# Altium integrated library HD_EMG_Circuit.IntLib: 44 symbols
Pins are listed as number, name and electrical type; pins without a type are passive.

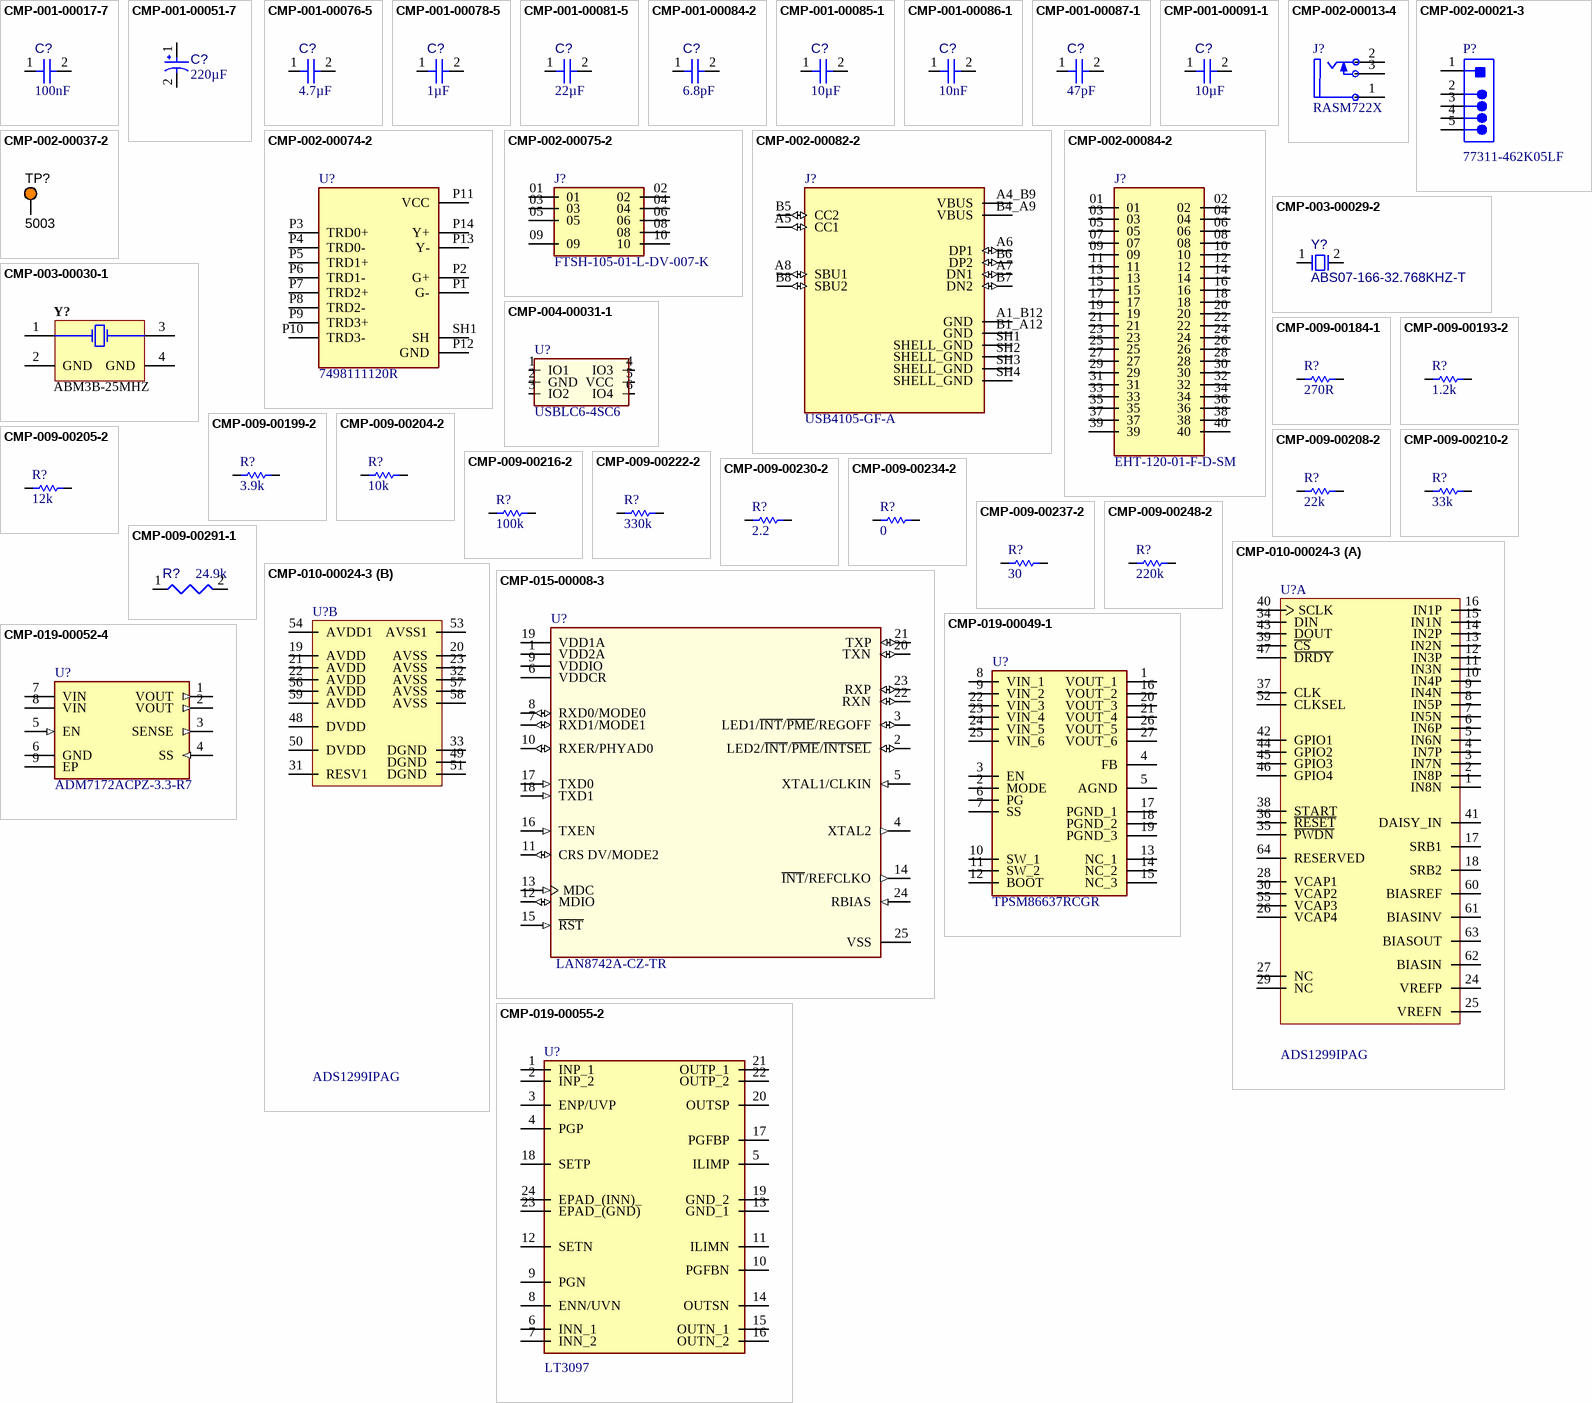
[diagram p0: symbols CMP-001-00017-7 to CMP-019-00055-2]

## CMP-001-00017-7
designator C?, comment value 100nF  (hidden comment: Capacitor 100 nF +/-10% 50 V 0603)
Chip Capacitor, 100 nF, +/- 10%, 50 V, 0603 (1608 Metric); Manufacturer: KYOCERA AVX; Manufacturer Part Number: 06035C104KAT2A; Manufacturer: Yageo Group; Manufacturer Part Number: CC0603KRX7R9BB104; Manufacturer: Murata; Manufacturer Part Number: GRM188R71H104KA93D; Voltage Rating: 50V; Capacitor Type: Ceramic; Tolerance: 10%; Mounting Technology: SM; Max Operating Temperature: 125°C; RoHS Compliant: True; Pins: 2; Case/Package: 0603; Min Operating Temperature: -55°C; Component Type: Capacitors
footprint CAPC1608X90X40NL10T20 (Chip Capacitor, 2-Leads, Body 1.70x0.90mm, IPC Medium Density)
footprint CAPC1608X90X40LL10T20 (Chip Capacitor, 2-Leads, Body 1.70x0.90mm, IPC High Density)
footprint CAPC1608X90X40ML10T20 (Chip Capacitor, 2-Leads, Body 1.70x0.90mm, IPC Low Density)
pins: 1, 2

## CMP-001-00051-7
designator C?, comment value 220µF  (hidden comment: TPSD227K010R0150)
Tantalum Capacitor, 220 uF, +/- 10%, 10 V, -55 to 125 degC, 2917 (7343 Metric), RoHS, Tape and Reel; Manufacturer: AVX Corporation; Manufacturer: KYOCERA AVX; Voltage Rating: 10V; Case/Package: 2917; Datasheet URL: https://datasheet.ciiva.com/8080/1680477-8080379.pdf; Package Description: 2-Pin Surface Mount Device, Body 7.3 x 4.35 mm; Tolerance: 10%; RoHS Compliant: True; Capacitor Type: Tantalum; Manufacturer URL: http://www.avx.com/; Pins: 2; Package Quantity: 1; Max Operating Temperature: 125°C; Mounting Technology: SM; Packaging: TapeandReel; Datasheet Version: 42736; Package Reference: 7343-31; Min Operating Temperature: -55°C; Manufacturer Part Number: TPSD227K010R0150; Component Type: Capacitors
footprint CAPMP7344X31-T_V (Molded Capacitor, 2-Leads, Body 7.50x4.5mm)
pins: 1, 2

## CMP-001-00076-5
designator C?, comment value 4.7µF  (hidden comment: Capacitor 4.7µF +/-20% 10V 0603)
Chip Capacitor, 4.7µF +/-20%, 10V, 0603, Thickness 1 mm; Manufacturer: Kyocera AVX; Manufacturer Part Number: 0603ZD475KAT2A; Manufacturer: Yageo Group; Manufacturer Part Number: CC0603KRX5R6BB475; Manufacturer: KEMET; Manufacturer Part Number: C0603C475K8PAC; Manufacturer Part Number: C0603C475K8PACTU; Manufacturer: TDK; Manufacturer Part Number: C1608X6S1A475K; Manufacturer Part Number: C1608X5R1A475K/0.80; Manufacturer Part Number: C1608X5R1A475K/0.50; Tolerance: 10%; Voltage Rating: 10V; Pins: 2; Case/Package: 0603; Max Operating Temperature: 85°C; Mounting Technology: SMT; Min Operating Temperature: -55°C; Component Type: Capacitors
footprint CAPC0603(1608)100_L (Chip Capacitor, Body 1.6x0.8mm, Height 1.0mm, IPC High Density)
pins: 1, 2

## CMP-001-00078-5
designator C?, comment value 1µF  (hidden comment: Capacitor 1µF +/-40% 50V 0603)
Chip Capacitor, 1µF +/-40%, 50V, 0603, Thickness 1 mm; Manufacturer: TDK-Lambda; Manufacturer Part Number: C1608X5R1H105M; Manufacturer: Murata; Manufacturer Part Number: GRT188R61H105ME13D; Manufacturer: TDK; Manufacturer Part Number: C1608X6S1H105M; Manufacturer: Samsung Electro-Mechanics; Manufacturer Part Number: CL10A105KB8NNNC; Manufacturer Part Number: GRT188R61H105KE13D; Tolerance: 10%; Case/Package: 0603; Min Operating Temperature: -55°C; Pins: 2; Max Operating Temperature: 85°C; Mounting Technology: SMT; Voltage Rating: 50V; Component Type: Capacitors
footprint CAPC0603(1608)100_L (Chip Capacitor, Body 1.6x0.8mm, Height 1.0mm, IPC High Density)
pins: 1, 2

## CMP-001-00081-5
designator C?, comment value 22µF  (hidden comment: Capacitor 22µF +/-40% 16V 0805)
Chip Capacitor, 22µF +/-40%, 16V, 0805, Thickness 1.45 mm; Manufacturer: Murata; Manufacturer Part Number: GRM219R61C226ME15L; Manufacturer: Samsung Electro-Mechanics; Manufacturer Part Number: CL21A226MAQNNNE; Manufacturer Part Number: CL21A226MOCLRNC; Manufacturer: TDK; Manufacturer Part Number: C2012X5R1C226M; Manufacturer Part Number: CL21A226MOQNNNE; Manufacturer Part Number: CL21A226KOQNNNE; Manufacturer Part Number: GRM21BR61C226ME44L; Tolerance: 5%; Max Operating Temperature: 85°C; Voltage Rating: 16V; Mounting Technology: SMT; Pins: 2; Case/Package: 0805; Min Operating Temperature: -55°C; Component Type: Capacitors
footprint CAPC0805(2012)145_L (Chip Capacitor, Body 2.0x1.2mm, Height 1.45mm, IPC High Density)
pins: 1, 2

## CMP-001-00084-2
designator C?, comment value 6.8pF  (hidden comment: CAP-6.8pF-0603-CL10C6R8CB8NNNC)
Ceramic Capacitor, Multilayer, Ceramic, 50V, 3.68% +Tol, 3.68% -Tol, 6.8pF-0603 C0G, -/+30ppm/Cel TC, 0.0000068uF, Surface Mount, 0603; Manufacturer: Samsung Electro-Mechanics; Max Operating Temperature: 125°C; Case/Package: 0603; Pins: 2; Min Operating Temperature: -55°C; Capacitor Type: Ceramic; RoHS Compliant: Yes; Mounting Technology: Surface Mount; Manufacturer Part Number: CL10C6R8CB8NNNC; Component Type: Capacitors
footprint FP-CL10-IPC_B
footprint FP-CL10-IPC_C
footprint FP-CL10-IPC_A
pins: 1, 2

## CMP-001-00085-1
designator C?, comment value 10µF  (hidden comment: CL31A106MBHNNNE)
Ceramic Capacitor, Multilayer, Ceramic, 50V, 20% +Tol, 20% -Tol, X5R, 15% TC, 10uF, Surface Mount, 1206; Manufacturer: Samsung Electro-Mechanics; Manufacturer Part Number: CL31B106KBHNNNE; Mounting Technology: Surface Mount; RoHS Compliant: Yes; Pins: 2; Case/Package: 1206; Min Operating Temperature: -55°C; Capacitor Type: Ceramic; Max Operating Temperature: 125°C; Manufacturer Part Number: CL31A106MBHNNNE; Component Type: Capacitors
footprint FP-CL31B106KBHNNNE-IPC_A
pins: 1, 2

## CMP-001-00086-1
designator C?, comment value 10nF  (hidden comment: MT03B103K500SD)
Ceramic Capacitor, Multilayer, Ceramic, 50V, 10% +Tol, 10% -Tol, X7R, 15% TC, 0.01uF, Surface Mount, 0603; Manufacturer: Samsung Electro-Mechanics; Manufacturer Part Number: CL10B103KB8NNNC; Case/Package: 0603; Max Operating Temperature: 125°C; RoHS Compliant: Yes; Pins: 2; Mounting Technology: Surface Mount; Capacitor Type: Ceramic; Min Operating Temperature: -55°C; Component Type: Capacitors
footprint CAPC1608X94X35ML15T15 (Chip Capacitor, 2-Leads, Body 1.75x0.96mm, IPC Low Density)
pins: 1, 2

## CMP-001-00087-1
designator C?, comment value 47pF  (hidden comment: CC0603JRNPO9BN470)
47 pF ±5% 50V Ceramic Capacitor C0G, NP0 0603 (1608 Metric); Manufacturer: KYOCERA AVX; Manufacturer Part Number: CC0603JRNPO9BN470; Component Type: Capacitors
footprint CAPC0603(1608)100_L (Chip Capacitor, Body 1.6x0.8mm, Height 1.0mm, IPC High Density)
pins: 1, 2

## CMP-001-00091-1
designator C?, comment value 10µF  (hidden comment: GRM21BR61E106KA73L)
Ceramic Capacitor, Multilayer, Ceramic, 25V, 10% +Tol, 10% -Tol, X5R, 15% TC, 10uF, Surface Mount, 0805; Manufacturer: Murata; Capacitor Type: Ceramic; Min Operating Temperature: -55°C; Mounting Technology: Surface Mount; Max Operating Temperature: 85°C; RoHS Compliant: Yes; Case/Package: 0805; Pins: 2; Manufacturer Part Number: GRM21BR61E106KA73L; Component Type: Capacitors
footprint FP-GRM21B-0_15-IPC_B
footprint FP-GRM21B-0_15-IPC_A
pins: 1, 2

## CMP-002-00013-4
designator J?, comment RASM722X
Power Jack, 5 A, 250 V, 3-Pin SMD, RoHS, Bulk; Manufacturer: Switchcraft; Connector Type: DCJack; Package Reference: RASM722X; Mounting Technology: SM; Manufacturer URL: http://www.switchcraft.com/; Datasheet URL: http://www.switchcraft.com/Drawings/rasm732x_cd.pdf; RoHS Compliant: Unknown; Datasheet Version: Rev. A, 09/2005; Package Description: 3-Pin Surface Mount Device, Body 14.5 x 9 mm; Case/Package: RASM722X; Manufacturer Part Number: RASM722X; Component Type: Connectors
footprint SWIT-RASM722X_V (SMD, 3-Leads, Body 14.5x9mm)
pins: 1 SLEEVE, 2 TIP, 3 SHUNT

## CMP-002-00021-3
designator P?, comment 77311-462K05LF
Male Header, Pitch 2.54 mm, 1 x 5 Position, Height 16.24 mm, Tail Length 3.05 mm, -65 to 125 degC, RoHS, Tape and Reel; Manufacturer: FCI Electronics; Manufacturer: Amphenol Communications Solutions; Connector Type: Header; Manufacturer URL: http://portal.fciconnect.com/; Datasheet URL: http://portal.fciconnect.com/Comergent//fci/drawing/77311.pdf; Gender: Male; Case/Package: 77311-5; Package Reference: 77311-5; Datasheet Version: Rev. CK, 07/2016; Package Description: Male Header, Pitch 2.54 mm, 1 x 5 Position, Height 16.24 mm, Tail Length 3.05 mm; RoHS Compliant: Unknown; Mounting Technology: TH; Manufacturer Part Number: 77311-462K05LF; Component Type: Connectors
footprint FCI-77311-5_V (THD, 5-Leads, Body 12.7x2.4mm, Pitch 2.54mm)
pins: 1 DTR, 2 RXI, 3 TXO, 4 VCC, 5 CTS

## CMP-002-00037-2
designator TP?, comment 5003
Test Point, Orange, Height 4.6 mm, Tail Length 3 mm, 1-Pin THD, RoHS; Manufacturer: Keystone; Colour: Orange; Packaging: Bulk; Package Description: 1-Pin Through Hole Device, Dia 2.54 mm; Pins: 1; Package Reference: 5003; Datasheet Version: Jun-15; Case/Package: 5003; Mounting Technology: TH; Connector Type: TestPoint; Diameter: 2.54mm; Contact Material: Bronze; Datasheet URL: http://keyelco.com/userAssets/file/M65p56.pdf; Manufacturer URL: http://www.keyelco.com/; Package Quantity: 10; Contact Plating: Tin; RoHS Compliant: True; Manufacturer Part Number: 5003; Component Type: Connectors
footprint KSTN-5003 (Test Point, Through Hole, Dia 2.54mm)
pins: 1

## CMP-002-00074-2
designator U?, comment 7498111120R
1 Port RJ45 Magjack Connector Board Edge, Cutout; Surface Mount 10/100/1000 Base-T, AutoMDIX; MF: Wurth Electronics; MP: 7498111120R; Pins: 15; Source: 7498111120R.SchLib; Design Item ID: 7498111120R; Mouser-Purchase-URL: https://snapeda.com/shop?store=Mouser&id=1720381; Value: *; Case/Package: None; Component Type: Standard; DigiKey-Purchase-URL: https://snapeda.com/shop?store=DigiKey&id=1720381; SnapEDA_Link: https://www.snapeda.com/parts/7498111120R/Wurth%20Electronics%20Inc./view-part/1720381/?ref=snap; Component Type: Connectors
footprint WURTH_7498111120R
pins: P1 G-, P2 G+, P3 TRD0+, P4 TRD0-, P5 TRD1+, P6 TRD1-, P7 TRD2+, P8 TRD2-, P9 TRD3+, P10 TRD3-, P11 VCC (power), P12 GND (power), P13 Y-, P14 Y+, SH1 SH (power)

## CMP-002-00075-2
designator J?, comment FTSH-105-01-L-DV-007-K
Board Connector, 9 Contact(s), 2 Row(s), Male, Straight, 0.05 inch Pitch, Surface Mount Terminal, Locking; MF: Samtec; MP: FTSH-105-X-X-DV-007-P-X; Value: FTSH-105-X-X-DV-007-P-X; Design Item ID: FTSH-105-X-X-DV-007-P-X; Price: None; Pins: 9; Source: FTSH-105-X-X-DV-007-P-X.SchLib; Component Type: Standard; Availability: Unavailable; Case/Package: None; Manufacturer: Samtec; Manufacturer Part Number: FTSH-105-01-L-DV-007-K; Component Type: Connectors
footprint SAMTEC_FTSH-105-X-X-DV-007-P-X
pins: 01, 02, 03, 04, 05, 06, 08, 09, 10

## CMP-002-00082-2
designator J?, comment USB4105-GF-A
Conn USB 2.0 Type C RCP 24 POS 0.3mm/0.5mm Solder RA SMD 24 Terminal 1 Port T/R; Manufacturer: Global Connector Technology; MF: {'manufacturer': u'GCT'}; Component Type: Standard; Source: USB4105-GF-A.SchLib; Availability: Unavailable; Design Item ID: USB4105-GF-A; Value: *; Case/Package: None; Pins: 16; MP: USB4105-GF-A; Price: None; Manufacturer Part Number: USB4105-GF-A; Component Type: Connectors
footprint GCT_USB4105-GF-A
pins: A1_B12 GND (power), A4_B9 VBUS (power), A5 CC1 (io), A6 DP1 (io), A7 DN1 (io), A8 SBU1 (io), B1_A12 GND (power), B4_A9 VBUS (power), B5 CC2 (io), B6 DP2 (io), B7 DN2 (io), B8 SBU2 (io), SH1 SHELL_GND (power), SH2 SHELL_GND (power), SH3 SHELL_GND (power), SH4 SHELL_GND (power)

## CMP-002-00084-2
designator J?, comment EHT-120-01-F-D-SM
Board Connector, 40 Contact(s), 2 Row(s), Male, Straight, 0.079 inch Pitch, Surface Mount Terminal, Latch & Eject, Black Insulator; Manufacturer: Samtec; Availability: Unavailable; Case/Package: None; Pins: 40; Max Operating Temperature: 125°C; Price: None; RoHS Compliant: Yes; Min Operating Temperature: -55°C; MP: EHT-120-01-F-D-SM; Mounting Technology: Board; Connector Type: BOARD CONNECTOR; Source: EHT-120-01-F-D-SM.SchLib; Design Item ID: EHT-120-01-F-D-SM; Component Type: Standard; Value: *; Manufacturer Part Number: EHT-120-01-F-D-SM; Component Type: Connectors
footprint SAMTEC_EHT-120-01-F-D-SM
pins: 01, 02, 03, 04, 05, 06, 07, 08, 09, 10, 11, 12, 13, 14, 15, 16, 17, 18, 19, 20, 21, 22, 23, 24, 25, 26, 27, 28, 29, 30, 31, 32, 33, 34, 35, 36, 37, 38, 39, 40

## CMP-003-00029-2
designator Y?, comment ABS07-166-32.768KHZ-T
Crystal 32.768kHz 10ppm 7pF -40C +85C; Manufacturer: Abracon; Pins: 2; Frequency: 32.768kHz; Manufacturer Part Number: ABS07-166-32.768KHZ-T; Component Type: Crystals & Oscillators
footprint EPSON-FC-135_V (SMD, 2-Leads, Body 3.2x1.5mm)
pins: 1, 2

## CMP-003-00030-1
designator Y?, comment ABM3B-25MHZ
Crystal 25.0000MHZ 8PF SMD; Manufacturer: Abracon; Manufacturer Part Number: ABM3B-25.000MHZ-8-R30-B1U-T; Component Type: Crystals & Oscillators
footprint ABRA-ABM3B_V (SMD, 4-Leads, Body 5x3.2mm)
pins: 1 X1, 2 GND (power), 3 X2, 4 GND (power)

## CMP-004-00031-1
designator U?, comment USBLC6-4SC6
USBLC6 Series 4 Line 6 V Uni / Bi-Directional ESD Protection - SOT-23-6; Manufacturer: STMicroelectronics; ESD Protection: Yes; Breakdown Voltage: 6V; Direction: Unidirectional; RoHS Compliant: Yes; Max Operating Temperature: 125°C; Case/Package: SOT-23; Mounting Technology: Surface Mount; Pins: 6; Min Operating Temperature: -40°C; Manufacturer Part Number: USBLC6-4SC6; Component Type: Diodes
footprint FP-SOT23-6L-IPC_A
pins: 1 IO1, 2 GND, 3 IO2, 4 IO3, 5 VCC, 6 IO4

## CMP-009-00184-1
designator R?, comment value 270R  (hidden comment: CMP-001-I91.0.4)
270R, 1%, 1/10W, 0603; Component Type: Standard; Design Item ID: CMP-001-I91.0.4; Pin Count: 2; Source: Integrated_Library - 29.10.24 - 16.43.SchLib; Component Type: Resistors
footprint 0603 Resistor (Chip Resistor, Body 1.6x0.8mm, IPC High Density)
footprint 0603 Resistor-1 (Chip Resistor, Body 1.6x0.8mm, IPC High Density)
pins: 1, 2
1 alternate drawing of the same symbol

## CMP-009-00193-2
designator R?, comment value 1.2k  (hidden comment: CMP-001-J00.0.3)
1K2, 1%, 1/10W, 0603; Component Type: Standard; Pin Count: 2; Source: Integrated_Library - 29.10.24 - 16.43.SchLib; Design Item ID: CMP-001-J00.0.3; Component Type: Resistors
footprint 0603 Resistor (Chip Resistor, Body 1.6x0.8mm, IPC High Density)
footprint 0603 Resistor-1 (Chip Resistor, Body 1.6x0.8mm, IPC High Density)
pins: 1, 2
1 alternate drawing of the same symbol

## CMP-009-00199-2
designator R?, comment value 3.9k  (hidden comment: CMP-001-J07.0.3)
3K9, 1%, 1/10W, 0603; Component Type: Standard; Design Item ID: CMP-001-J07.0.3; Source: Integrated_Library - 29.10.24 - 16.43.SchLib; Pin Count: 2; Component Type: Resistors
footprint 0603 Resistor (Chip Resistor, Body 1.6x0.8mm, IPC High Density)
footprint 0603 Resistor-1 (Chip Resistor, Body 1.6x0.8mm, IPC High Density)
pins: 1, 2
1 alternate drawing of the same symbol

## CMP-009-00204-2
designator R?, comment value 10k  (hidden comment: 10K-0603)
10K, 1%, 1/10W, 0603; Pin Count: 2; Component Type: Standard; Source: Integrated_Library - 29.10.24 - 16.43.SchLib; Design Item ID: CMP-001-J12.0.3; Component Type: Resistors
footprint 0603 Resistor (Chip Resistor, Body 1.6x0.8mm, IPC High Density)
footprint 0603 Resistor-1 (Chip Resistor, Body 1.6x0.8mm, IPC High Density)
pins: 1, 2
1 alternate drawing of the same symbol

## CMP-009-00205-2
designator R?, comment value 12k  (hidden comment: CMP-001-J13.0.3)
12K, 1%, 1/10W, 0603; Component Type: Standard; Design Item ID: CMP-001-J13.0.3; Pin Count: 2; Source: Integrated_Library - 29.10.24 - 16.43.SchLib; Component Type: Resistors
footprint 0603 Resistor (Chip Resistor, Body 1.6x0.8mm, IPC High Density)
pins: 1, 2
1 alternate drawing of the same symbol

## CMP-009-00208-2
designator R?, comment value 22k  (hidden comment: CMP-001-J16.0.3)
22K, 1%, 1/10W, 0603; Component Type: Standard; Design Item ID: CMP-001-J16.0.3; Pin Count: 2; Source: Integrated_Library - 29.10.24 - 16.43.SchLib; Component Type: Resistors
footprint 0603 Resistor (Chip Resistor, Body 1.6x0.8mm, IPC High Density)
footprint 0603 Resistor-1 (Chip Resistor, Body 1.6x0.8mm, IPC High Density)
pins: 1, 2
1 alternate drawing of the same symbol

## CMP-009-00210-2
designator R?, comment value 33k  (hidden comment: CMP-001-J18.0.3)
33K, 1%, 1/10W, 0603; Pin Count: 2; Component Type: Standard; Design Item ID: CMP-001-J18.0.3; Source: Integrated_Library - 29.10.24 - 16.43.SchLib; Component Type: Resistors
footprint 0603 Resistor (Chip Resistor, Body 1.6x0.8mm, IPC High Density)
pins: 1, 2
1 alternate drawing of the same symbol

## CMP-009-00216-2
designator R?, comment value 100k  (hidden comment: CMP-001-J24.0.3)
100K, 1%, 1/10W, 0603; Pin Count: 2; Design Item ID: CMP-001-J24.0.3; Source: Integrated_Library - 29.10.24 - 16.43.SchLib; Component Type: Standard; Component Type: Resistors
footprint 0603 Resistor (Chip Resistor, Body 1.6x0.8mm, IPC High Density)
pins: 1, 2
1 alternate drawing of the same symbol

## CMP-009-00222-2
designator R?, comment value 330k  (hidden comment: CMP-001-J31.0.3)
330K, 1%, 1/10W, 0603; Component Type: Standard; Pin Count: 2; Source: Integrated_Library - 29.10.24 - 16.43.SchLib; Design Item ID: CMP-001-J31.0.3; Component Type: Resistors
footprint 0603 Resistor (Chip Resistor, Body 1.6x0.8mm, IPC High Density)
pins: 1, 2
1 alternate drawing of the same symbol

## CMP-009-00230-2
designator R?, comment value 2.2  (hidden comment: CMP-001-J39.0.2)
2R2, 1%, 1/10W, 0603; Source: Integrated_Library - 29.10.24 - 16.43.SchLib; Design Item ID: CMP-001-J39.0.2; Pin Count: 2; Component Type: Standard; Component Type: Resistors
footprint 0603 Resistor (Chip Resistor, Body 1.6x0.8mm, IPC High Density)
footprint 0603 Resistor-1 (Chip Resistor, Body 1.6x0.8mm, IPC High Density)
pins: 1, 2
1 alternate drawing of the same symbol

## CMP-009-00234-2
designator R?, comment value 0  (hidden comment: 0R-Jumper-0603)
0R, Jumper, 1/10W, 0603; Design Item ID: CMP-001-J71.0.1; Component Type: Standard; Pin Count: 2; Source: Integrated_Library - 29.10.24 - 16.43.SchLib; Component Type: Resistors
footprint 0603 Resistor (Chip Resistor, Body 1.6x0.8mm, IPC High Density)
pins: 1, 2
1 alternate drawing of the same symbol

## CMP-009-00237-2
designator R?, comment value 30  (hidden comment: CMP-001-J78.0.2)
30R, 1%, 1/10W, 0603; Design Item ID: CMP-001-J78.0.2; Pin Count: 2; Component Type: Standard; Source: Integrated_Library - 29.10.24 - 16.43.SchLib; Component Type: Resistors
footprint 0603 Resistor (Chip Resistor, Body 1.6x0.8mm, IPC High Density)
pins: 1, 2
1 alternate drawing of the same symbol

## CMP-009-00248-2
designator R?, comment value 220k  (hidden comment: CMP-001-J99.0.1)
220K, 1%, 1/10W, 0603; Design Item ID: CMP-001-J99.0.1; Source: Integrated_Library - 29.10.24 - 16.43.SchLib; Component Type: Standard; Pin Count: 2; Component Type: Resistors
footprint 0603 Resistor (Chip Resistor, Body 1.6x0.8mm, IPC High Density)
pins: 1, 2
1 alternate drawing of the same symbol

## CMP-009-00291-1
designator R?, comment value 24.9k  (hidden comment: RNCF0603DTE24K9)
Fixed Resistor, Thin Film, 0.166W, 24900ohm, 100V, 0.5% +/-Tol, 25ppm/Cel, Surface Mount, 0603; Manufacturer: Stackpole Electronics; Power: 166mW; Min Operating Temperature: -55°C; RoHS Compliant: Yes; Mounting Technology: Surface Mount; Max Operating Temperature: 155°C; Case/Package: 0603; Pins: 2; Tolerance: 0.5%; Manufacturer Part Number: RNCF0603DTE24K9; Component Type: Resistors
footprint 0603 Resistor (Chip Resistor, Body 1.6x0.8mm, IPC High Density)
pins: 1, 2
1 alternate drawing of the same symbol

## CMP-010-00024-3
designator U?, comment ADS1299IPAG
ADC, Delta-Sigma, 24-Bit, 1 Func, 8 Channel, Serial Access, PQFP64; Manufacturer: Texas Instruments; Nominal Supply Voltage: 5V; Case/Package: TFQFP; Max Operating Temperature: 85°C; Pins: 64; RoHS Compliant: Yes; Min Operating Temperature: -40°C; Manufacturer Part Number: ADS1299IPAG; Component Type: Sensors
footprint PAG0064A_M (QFP, 64-Leads, Body 10x10mm, Pitch 0.5mm, IPC Low Density)
footprint PAG0064A_N (QFP, 64-Leads, Body 10x10mm, Pitch 0.5mm, IPC Medium Density)
part A pins: 1 IN8N "Differential analog negative input 8", 2 IN8P "Differential analog positive input 8", 3 IN7N "Differential analog negative input 7", 4 IN7P "Differential analog positive input 7", 5 IN6N "Differential analog negative input 6", 6 IN6P "Differential analog positive input 6", 7 IN5N "Differential analog negative input 5", 8 IN5P "Differential analog positive input 5", 9 IN4N "Differential analog negative input 4", 10 IN4P "Differential analog positive input 4", 11 IN3N "Differential analog negative input 3", 12 IN3P "Differential analog positive input 3", 13 IN2N "Differential analog negative input 2", 14 IN2P "Differential analog positive input 2", 15 IN1N "Differential analog negative input 1", 16 IN1P "Differential analog positive input 1", 17 SRB1 "Patient stimulus, reference, and bias signal 1", 18 SRB2 "Patient stimulus, reference, and bias signal 2", 24 VREFP "Positive reference voltage", 25 VREFN "Negative reference voltage", 26 VCAP4 "Analog bypass capacitor", 27 NC "No connection", 28 VCAP1 "Analog bypass capacitor", 29 NC "No connection", 30 VCAP2 "Analog bypass capacitor", 34 DIN "SPI data in", 35 ~{PWDN} "Power-down; active low", 36 ~{RESET} "System reset; active low", 37 CLK "Master clock input", 38 START "Start conversion", 39 ~{CS} "SPI chip select; active low", 40 SCLK "SPI clock", 41 DAISY_IN "Daisy-chain input", 42 GPIO1 "General-purpose input/output pin", 43 DOUT "SPI data out", 44 GPIO2 "General-purpose input/output pin", 45 GPIO3 "GPIO3 in normal mode", 46 GPIO4 "GPIO4 in normal mode", 47 ~{DRDY} "Data ready; active low", 52 CLKSEL "Master clock select", 55 VCAP3 "Analog bypass capacitor", 60 BIASREF "Bias drive noninverting input", 61 BIASINV "Bias drive inverting input", 62 BIASIN "Bias drive input to MUX", 63 BIASOUT "Bias drive output", 64 RESERVED "Leave as open circuit"
part B pins: 19 AVDD (power) "Analog supply", 20 AVSS (power) "Analog ground", 21 AVDD (power) "Analog supply", 22 AVDD (power) "Analog supply", 23 AVSS (power) "Analog ground", 31 RESV1 (power) "Reserved for future use. Must tie to logic low (DGND)", 32 AVSS (power) "Analog ground", 33 DGND (power) "Digital ground", 48 DVDD (power) "Digital power supply", 49 DGND (power) "Digital ground", 50 DVDD (power) "Digital power supply", 51 DGND (power) "Digital ground", 53 AVSS1 (power) "Analog ground", 54 AVDD1 (power) "Analog supply", 56 AVDD (power) "Analog supply", 57 AVSS (power) "Analog ground", 58 AVSS (power) "Charge pump analog ground", 59 AVDD (power) "Charge pump analog supply"

## CMP-015-00008-3
designator U?, comment LAN8742A-CZ-TR
Ethernet Transceiver, PQCC24; Manufacturer: Microchip; Nominal Supply Voltage: 1.2V; Pins: 24; Max Operating Temperature: 70°C; Case/Package: HVQCCN; Min Operating Temperature: 0°C; Telecom IC Type: ETHERNET TRANSCEIVER; RoHS Compliant: Yes; Manufacturer Part Number: LAN8742A-CZ-TR; Component Type: Interface
footprint FP-C04-143B-S4QFN-MFG
footprint FP-C04-143B-S4QFN-IPC_A
footprint FP-C04-143B-S4QFN-IPC_B
footprint FP-C04-143B-S4QFN-IPC_C
pins: 1 VDD2A (power), 2 LED2/~{INT}/~{PME}/~{INTSEL} (io), 3 LED1/~{INT}/~{PME}/REGOFF (io), 4 XTAL2 (out), 5 XTAL1/CLKIN (in), 6 VDDCR (power), 7 RXD1/MODE1 (io), 8 RXD0/MODE0 (io), 9 VDDIO (power), 10 RXER/PHYAD0 (io), 11 CRS DV/MODE2 (io), 12 MDIO (io), 13 MDC (in), 14 ~{INT}/REFCLKO (out), 15 ~{RST} (in), 16 TXEN (in), 17 TXD0 (in), 18 TXD1 (in), 19 VDD1A (power), 20 TXN (io), 21 TXP (io), 22 RXN (io), 23 RXP (io), 24 RBIAS (in), 25 VSS (power)

## CMP-019-00049-1
designator U?, comment TPSM86637RCGR
4.5V to 28V input voltage, 6A ECO mode, synchronous buck module with QFN package 19-B3QFN -40 to 150; Manufacturer: Texas Instruments; Manufacturer Part Number: TPSM86637RCGR; Component Type: Power Supply
footprint TPSM86637RCGR-Footprint-1
pins: 1 VOUT_1, 2 MODE, 3 EN, 4 FB, 5 AGND, 6 PG, 7 SS, 8 VIN_1, 9 VIN_2, 10 SW_1, 11 SW_2, 12 BOOT, 13 NC_1, 14 NC_2, 15 NC_3, 16 VOUT_2, 17 PGND_1, 18 PGND_2, 19 PGND_3, 20 VOUT_3, 21 VOUT_4, 22 VIN_3, 23 VIN_4, 24 VIN_5, 25 VIN_6, 26 VOUT_5, 27 VOUT_6

## CMP-019-00052-4
designator U?, comment ADM7172ACPZ-3.3-R7
Fixed Positive LDO Regulator, 3.3V, 0.27V Dropout, CMOS, PDCC8; Manufacturer: Analog Devices; Regulator Type: FIXED POSITIVE SINGLE OUTPUT STANDARD REGULATOR; RoHS Compliant: Yes; Manufacturer Part Number: ADM7172ACPZ-3.3-R7; Component Type: Power Supply
footprint FP-CP-8-21-IPC_A
pins: 1 VOUT (out), 2 VOUT (out), 3 SENSE (out), 4 SS (in), 5 EN (in), 6 GND (power), 7 VIN (power), 8 VIN (power), 9 EP (power)

## CMP-019-00055-2
designator U?, comment LT3097
Dual 500mA, Positive/Negative, Ultra-Low Noise, Ultra-High PSRR Low Dropout Linear Regulator; Manufacturer: Analog Devices; Manufacturer Part Number: LT3097ADJC#PBF; Component Type: Power Supply
footprint LT3097-Footprint-1
pins: 1 INP_1, 2 INP_2, 3 ENP/UVP, 4 PGP, 5 ILIMP, 6 INN_1, 7 INN_2, 8 ENN/UVN, 9 PGN, 10 PGFBN, 11 ILIMN, 12 SETN, 13 GND_1, 14 OUTSN, 15 OUTN_1, 16 OUTN_2, 17 PGFBP, 18 SETP, 19 GND_2, 20 OUTSP, 21 OUTP_1, 22 OUTP_2, 23 EPAD_(GND), 24 EPAD_(INN)_

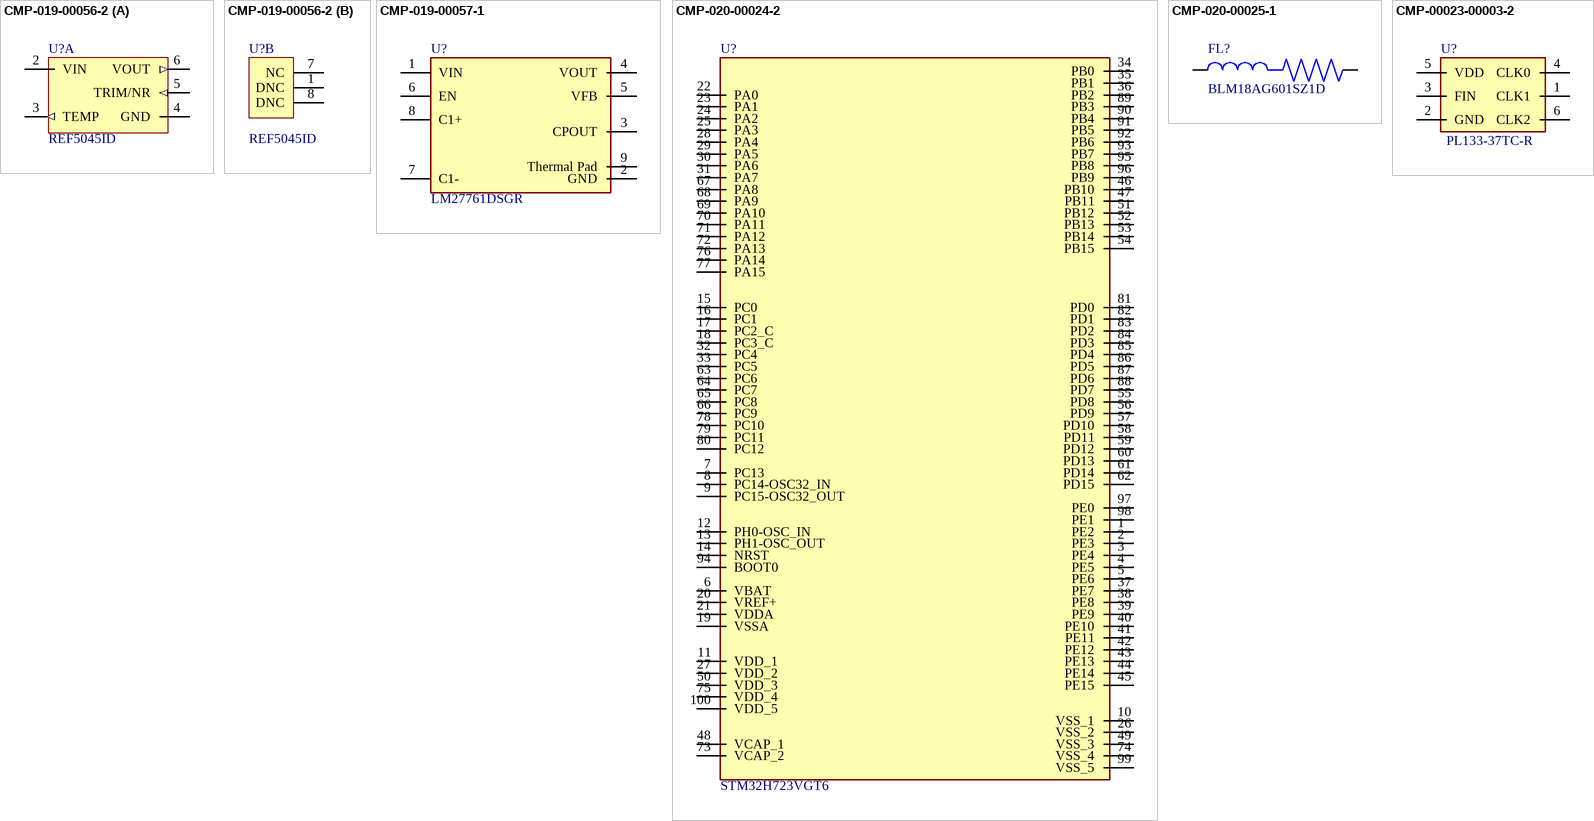
[diagram p1: symbols CMP-019-00056-2 to CMP-00023-00003-2]

## CMP-019-00056-2
designator U?, comment REF5045ID
Three Terminal Voltage Reference, 1 Output, 4.5V, Trim/Adjustable, PDSO8; Manufacturer: Texas Instruments; Min Supply Voltage: 2.7V; Min Output Voltage: 4.4955V; Voltage Tolerance-Max: 0.05%; Max Output Voltage: 4.5045V; Max Supply Voltage: 18V; Pins: 8; Max Operating Temperature: 125°C; Min Operating Temperature: -40°C; RoHS Compliant: Yes; Case/Package: SOP; Manufacturer Part Number: REF5045ID; Component Type: Power Supply
footprint D0008A_M (SOIC, 8-Leads, Body 5x4mm, Pitch 1.27mm, IPC Low Density)
footprint D0008A_L (SOIC, 8-Leads, Body 5x4mm, Pitch 1.27mm, IPC High Density)
footprint D0008A_N (SOIC, 8-Leads, Body 5x4mm, Pitch 1.27mm, IPC Medium Density)
part A pins: 2 VIN (power), 3 TEMP (out), 4 GND (power), 5 TRIM/NR (in), 6 VOUT (out)
part B pins: 1 DNC "Do not connect", 7 NC "No internal connection", 8 DNC "Do not connect"

## CMP-019-00057-1
designator U?, comment LM27761DSGR
Switched Capacitor Converter, 0.25A, 2300kHz Switching Freq-Max, PDSO8; Manufacturer: Texas Instruments; Min Input Voltage: 2.7V; Max Output current: 250mA; Max Supply Voltage: 5.5V; Frequency: 2.3MHz; Max Operating Temperature: 85°C; Height - Seated (Max): 0.8mm; Min Operating Temperature: -40°C; Case/Package: HVSON; Pins: 8; RoHS Compliant: Yes; Manufacturer Part Number: LM27761DSGR; Component Type: Power Supply
footprint FP-DSG0008A-IPC_A
pins: 1 VIN (power), 2 GND (power), 3 CPOUT (power), 4 VOUT (power), 5 VFB (power), 6 EN, 7 C1- (power), 8 C1+ (power), 9 Thermal Pad (power)

## CMP-020-00024-2
designator U?, comment STM32H723VGT6
ARM Cortex-M7 RISC 1MB Flash 1.71V to 3.6V 100-Pin LQFP T/R; Manufacturer: STMicroelectronics; Manufacturer Part Number: STM32H723VGT6; Component Type: Processors
footprint STM32H723VGT6TR-Footprint-1
pins: 1 PE2, 2 PE3, 3 PE4, 4 PE5, 5 PE6, 6 VBAT, 7 PC13, 8 PC14-OSC32_IN, 9 PC15-OSC32_OUT, 10 VSS_1, 11 VDD_1, 12 PH0-OSC_IN, 13 PH1-OSC_OUT, 14 NRST, 15 PC0, 16 PC1, 17 PC2_C, 18 PC3_C, 19 VSSA, 20 VREF+, 21 VDDA, 22 PA0, 23 PA1, 24 PA2, 25 PA3, 26 VSS_2, 27 VDD_2, 28 PA4, 29 PA5, 30 PA6, 31 PA7, 32 PC4, 33 PC5, 34 PB0, 35 PB1, 36 PB2, 37 PE7, 38 PE8, 39 PE9, 40 PE10, 41 PE11, 42 PE12, 43 PE13, 44 PE14, 45 PE15, 46 PB10, 47 PB11, 48 VCAP_1, 49 VSS_3, 50 VDD_3, 51 PB12, 52 PB13, 53 PB14, 54 PB15, 55 PD8, 56 PD9, 57 PD10, 58 PD11, 59 PD12, 60 PD13, 61 PD14, 62 PD15, 63 PC6, 64 PC7, 65 PC8, 66 PC9, 67 PA8, 68 PA9, 69 PA10, 70 PA11, 71 PA12, 72 PA13, 73 VCAP_2, 74 VSS_4, 75 VDD_4, 76 PA14, 77 PA15, 78 PC10, 79 PC11, 80 PC12, 81 PD0, 82 PD1, 83 PD2, 84 PD3, 85 PD4, 86 PD5, 87 PD6, 88 PD7, 89 PB3, 90 PB4, 91 PB5, 92 PB6, 93 PB7, 94 BOOT0, 95 PB8, 96 PB9, 97 PE0, 98 PE1, 99 VSS_5, 100 VDD_5

## CMP-020-00025-1
designator FL?, comment BLM18AG601SZ1D
600 Ohms @ 100MHz 1 Signal Line Ferrite Bead 0603 (1608 Metric) 500mA 380mOhm; MF: Murata; MP: BLM18AG601SZ1D; Purchase-URL: https://pricing.snapeda.com/search/part/BLM18AG601SZ1D/?ref=eda; Availability: Good; Value: *; Price: None; Check_prices: https://www.snapeda.com/parts/BLM18AG601SZ1D/Murata/view-part/2724600/?ref=eda; Component Type: Standard; Case/Package: 1608 Murata; SnapEDA_Link: https://www.snapeda.com/parts/BLM18AG601SZ1D/Murata/view-part/2724600/?ref=snap; Source: BLM18AG601SZ1D.SchLib; Design Item ID: BLM18AG601SZ1D; Pins: 2; Component Type: Ferriteperle
footprint BEADC1608X95N
pins: 1, 2

## CMP-00023-00003-2
designator U?, comment PL133-37TC-R
Low Skew Clock Driver, PL133 Series, 3 True Output(s), 0 Inverted Output(s), PDSO6, 150MHz; Manufacturer: Microchip; Min Supply Voltage: 1.62V; Max Supply Voltage: 3.63V; Number of True Outputs: 3; Nominal Supply Voltage: 1.8V; Case/Package: LSSOP; Max Operating Temperature: 70°C; Min Operating Temperature: 0°C; Pins: 6; RoHS Compliant: Yes; Manufacturer Part Number: PL133-37TC-R; Component Type: Clock&Timing
footprint PL133-37TC-R-Footprint-1
pins: 1 CLK1, 2 GND, 3 FIN, 4 CLK0, 5 VDD, 6 CLK2